# EAGLE library part 10118193-0001LF (library RoboJackets-Connectors)
Micro USB B Type Receptacle Datasheet <https://cdn.amphenol-icc.com/media/wysiwyg/files/documentation/datasheet/inputoutput/io_usb_micro.pdf>
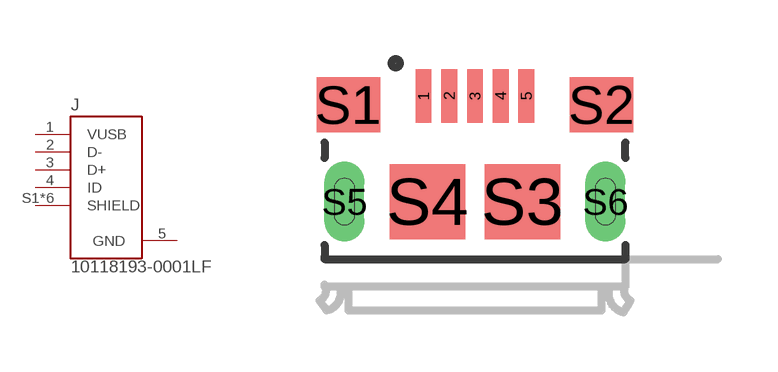
[diagram p47: symbol with the pads of FCI_10118193-0001LF; footprint FCI_10118193-0001LF]

Designator prefix J

## 10118193-0001LF (DKPN: 609-4616-1-ND)  [FCI_10118193-0001LF]
1  VUSB  pas
2  D-  pas
3  D+  pas
4  ID  pas
5  GND  pas
S1  SHIELD  pas
S2  SHIELD  pas
S3  SHIELD  pas
S4  SHIELD  pas
S5  SHIELD  pas
S6  SHIELD  pas

## Footprint FCI_10118193-0001LF (pad centres in mm)
Datasheet <https://www.amphenol-icc.com/media/wysiwyg/files/drawing/10118193.pdf?__cf_chl_jschl_tk__=7587b4a099bcf56322852fdb992f042445acf8d1-1600216637-0-AR60k2XiLw-c-hR4BfE5RptI92zGzUJXAFQlFK920NNKRGCT4xkkcJtUJ3-t0ZvChKAbbO_hTwySrMZXhquBuBt_XNUpxtYcA7Gd4eOLekz9L8iKdUUys05RYpxm33wIk0QLSplgdxH9sZ4hX3Cx3w9wSNnjVL-SIcPj951nFOgpwsq8qs6zNEJHSNWZlYckXynzu5MdSNtpa3wA3Cx9CHguVQGIv85d-LMIDjnqQY5gNLXmWWB_iOjaiaj9s371rxyrFKlMR_oC8Q4r2-No-TmuYXnwkCFYBz3P3luOx_wVP_brjXYkrDIobAGlBIBp8-b1FDkBNcL2k1f8xNu2anHQnOeeGoZ428O7B7rGnX5YX88OCyb-M2q5c6x4j-s1My-hYFquP5MZgOstkrhl7B8>
smd 0.4 x 1.35: 1 -1.3,2.675; 2 -0.65,2.675; 3 0,2.675; 4 0.65,2.675; 5 1.3,2.675
smd 1.6 x 1.4: S1 -3.2,2.45; S2 3.2,2.45
smd 1.9 x 1.9: S3 1.2,0; S4 -1.2,0
drill 0.5 long: S5 -3.3,0; S6 3.3,0